# Altium schematic symbol library MB0013A.01.A.2.SchLib: 1 symbol
Pins are listed as number, name and electrical type; pins without a type are passive.

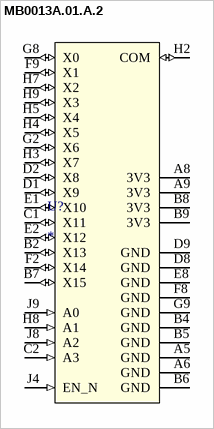
[diagram p0: symbol MB0013A.01.A.2]

## MB0013A.01.A.2
designator U?
pins: A5 GND (power), A6 GND (power), A8 3V3 (power), A9 3V3 (power), B2 X13 (io), B4 GND (power), B5 GND (power), B6 GND (power), B7 X15 (io), B8 3V3 (power), B9 3V3 (power), C1 X11 (io), C2 A3 (in), D1 X9 (io), D2 X8 (io), D8 GND (power), D9 GND (power), E1 X10 (io), E2 X12 (io), E8 GND (power), F2 X14 (io), F8 GND (power), F9 X1 (io), G2 X6 (io), G8 X0 (io), G9 GND (power), H2 COM (io), H3 X7 (io), H4 X5 (io), H5 X4 (io), H7 X2 (io), H8 A1 (in), H9 X3 (io), J4 EN_N (in), J8 A2 (in), J9 A0 (in)